# Altium footprint library LM2596S-5P0.PcbLib: 1 footprints
Each footprint in its own frame and in the unit in brackets; x right, y up, seen from the top. Pads: shape width x height; smd on the part's side, far side on the other; paste and mask are expansions set on the pad; w line width, h text height; cw(c..) or ccw(c..) is an arc to the next point about the centre after c.
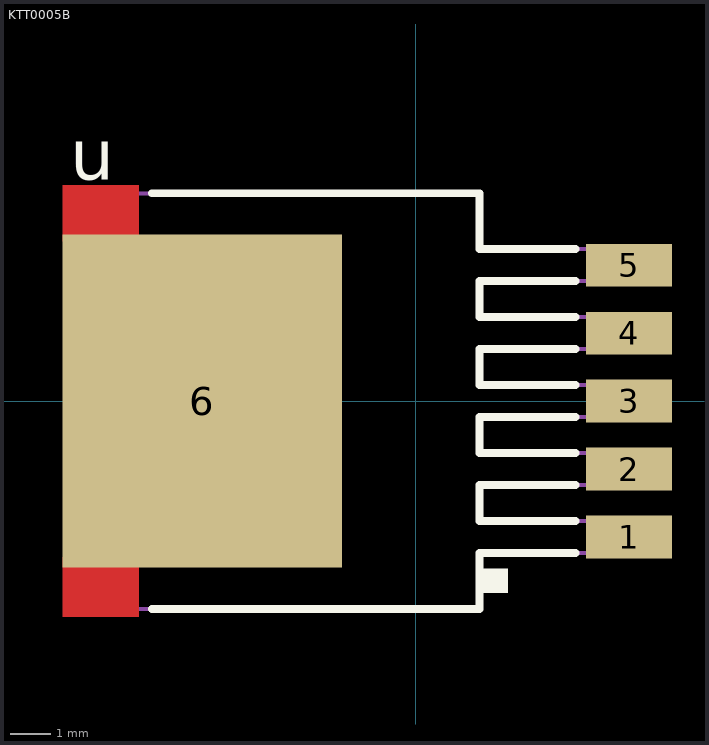
[diagram p0: the footprint, top view; thin cyan lines are the x and y axes]

## KTT0005B [mm]
pads (6):
  rect 2.16x1.07 smd paste-0.102 mask+0.051: 1(5.338,-3.4) 2(5.338,-1.7) 3(5.338,0.005) 4(5.338,1.7) 5(5.338,3.4)
  rect 6.99x8.33 smd paste-0.102 mask+0.051: 6(-5.338,0)
Top Layer:
  region: -8.832,-3.9 -8.832,-5.4 -6.923,-5.4 -6.923,-3.9
  region: -8.832,5.4 -8.832,4 -6.923,4 -6.923,5.4
Top Overlay:
  region: 1.6,-4.2 1.6,-4.8 2.3,-4.8 2.3,-4.2
  lines w0.2: -6.6,-5.2 1.6,-5.2 1.6,-3.8 4,-3.8 ; -6.6,5.2 1.6,5.2 1.6,3.8 4,3.8 ; 4,-3 1.6,-3 1.6,-2.1 4,-2.1 ; 4,-1.3 1.6,-1.3 1.6,-0.4 4,-0.4 ; 4,0.4 1.6,0.4 1.6,1.3 4,1.3 ; 4,2.1 1.6,2.1 1.6,3 4,3
  text "u" at -8.636,5.537 h1.27
Top Paste:
  region: -8.731,-4.002 -8.731,-5.298 -7.024,-5.298 -7.024,-4.002
  region: -8.731,5.298 -8.731,4.102 -7.024,4.102 -7.024,5.298
Top Solder:
  region: -8.883,-3.849 -8.883,-5.451 -6.872,-5.451 -6.872,-3.849
  region: -8.883,5.451 -8.883,3.949 -6.872,3.949 -6.872,5.451
Mechanical 13:
  lines w0.1: -8.3,-3.3 -7.9,-5.2 1.6,-5.2 1.6,-3.8 6,-3.8 6,-3 1.6,-3 1.6,-2.1 6,-2.1 6,-1.3 1.6,-1.3 1.6,-0.4 6,-0.4 6,0.4 1.6,0.4 1.6,1.3 6,1.3 6,2.1 1.6,2.1 1.6,3 6,3 6,3.8 1.6,3.8 1.6,5.2 -7.9,5.2 -8.3,3.6 -8.3,-3.3
  text ".Designator" at -3.3,-1.035 h1.27
3D body "KTT0005B.stp": height 4.7, standoff -0.03, extent -8.801,-5.08 5.499,5.08
3D body: height 0.25, standoff 0, extent 0,0 0.254,0.254